# Altium footprint library 527450497.PcbLib: 1 footprints
Each footprint in its own frame and in the unit in brackets; x right, y up, seen from the top. Pads: shape width x height; smd on the part's side, far side on the other; paste and mask are expansions set on the pad; w line width, h text height; cw(c..) or ccw(c..) is an arc to the next point about the centre after c.
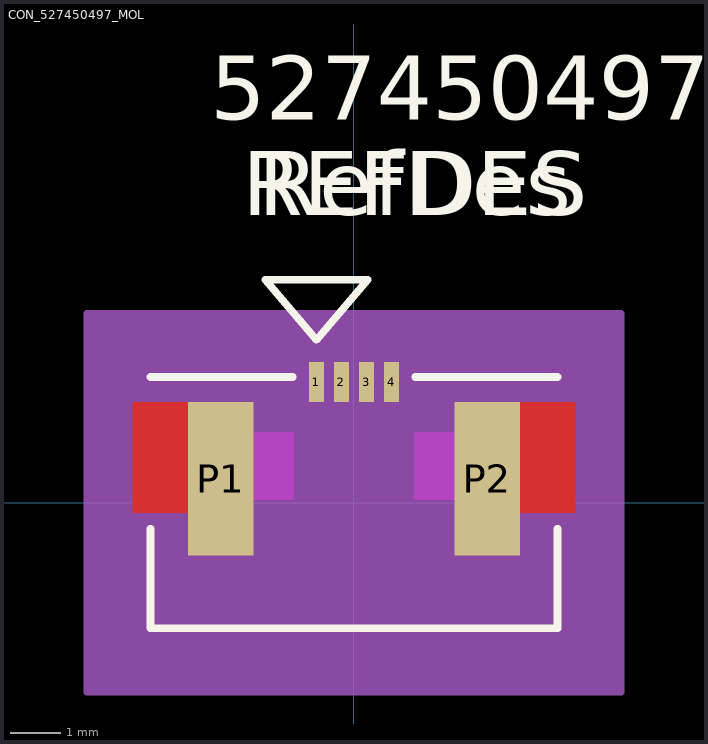
[diagram p0: the footprint, top view; thin cyan lines are the x and y axes]

## CON_527450497_MOL [mm]
pads (6):
  rect 0.3x0.8 smd paste+0 mask+0.076: 1(-0.75,2.4) 2(-0.25,2.4) 3(0.25,2.4) 4(0.75,2.4)
  rect 1.3x3.05 smd paste+0 mask+0.076: P1(-2.65,0.475) P2(2.65,0.475)
Top Layer:
  region: -3.3,-0.2 -3.3,2 -4.4,2 -4.4,-0.2
  region: 3.3,-0.2 3.3,2 4.4,2 4.4,-0.2
Top Overlay:
  lines w0.152: -4.05,-0.517 -4.05,-2.5 4.05,-2.5 4.05,-0.517 ; -4.05,2.5 -1.217,2.5 ; 1.218,2.5 4.05,2.5 ; -1.764,4.432 0.268,4.432 -0.748,3.238 -1.764,4.432
  text "REFDES" at -2.222,5.715 h1.27
  text "527450497" at -2.857,7.62 h1.27
  text "RefDes" at -1.905,5.715 h1.27
Top Paste:
  region: -3.3,-0.2 -3.3,2 -4.4,2 -4.4,-0.2
  region: 3.3,-0.2 3.3,2 4.4,2 4.4,-0.2
Top Solder:
  region: -3.3,-0.2 -3.3,2 -4.4,2 -4.4,-0.2
  region: 3.3,-0.2 3.3,2 4.4,2 4.4,-0.2
Keep-Out Layer:
  region: -2,0.06 -2,1.4 -1.2,1.4 -1.2,0.06
  region: 2,0.06 2,1.4 1.2,1.4 1.2,0.06
Mechanical 13:
  lines w0.127: -4.05,-2.5 4.05,-2.5 4.05,2.5 -4.05,2.5 -4.05,-2.5 ; -1.764,4.432 0.268,4.432 -0.748,3.238 -1.764,4.432
  text "527450497" at -2.857,7.62 h1.27
  text "RefDes2" at -2.222,5.715 h1.27
Mechanical 15:
  region: 5.32,3.77 -5.32,3.77 -5.32,-3.77 5.32,-3.77
  lines w0.127: -5.32,-3.77 -5.32,3.77 5.32,3.77 5.32,-3.77 -5.32,-3.77